# Altium footprint library Sitara.PcbLib: 12 footprints
Each footprint in its own frame and in the unit in brackets; x right, y up, seen from the top. Pads: shape width x height; smd on the part's side, far side on the other; paste and mask are expansions set on the pad; w line width, h text height; cw(c..) or ccw(c..) is an arc to the next point about the centre after c.
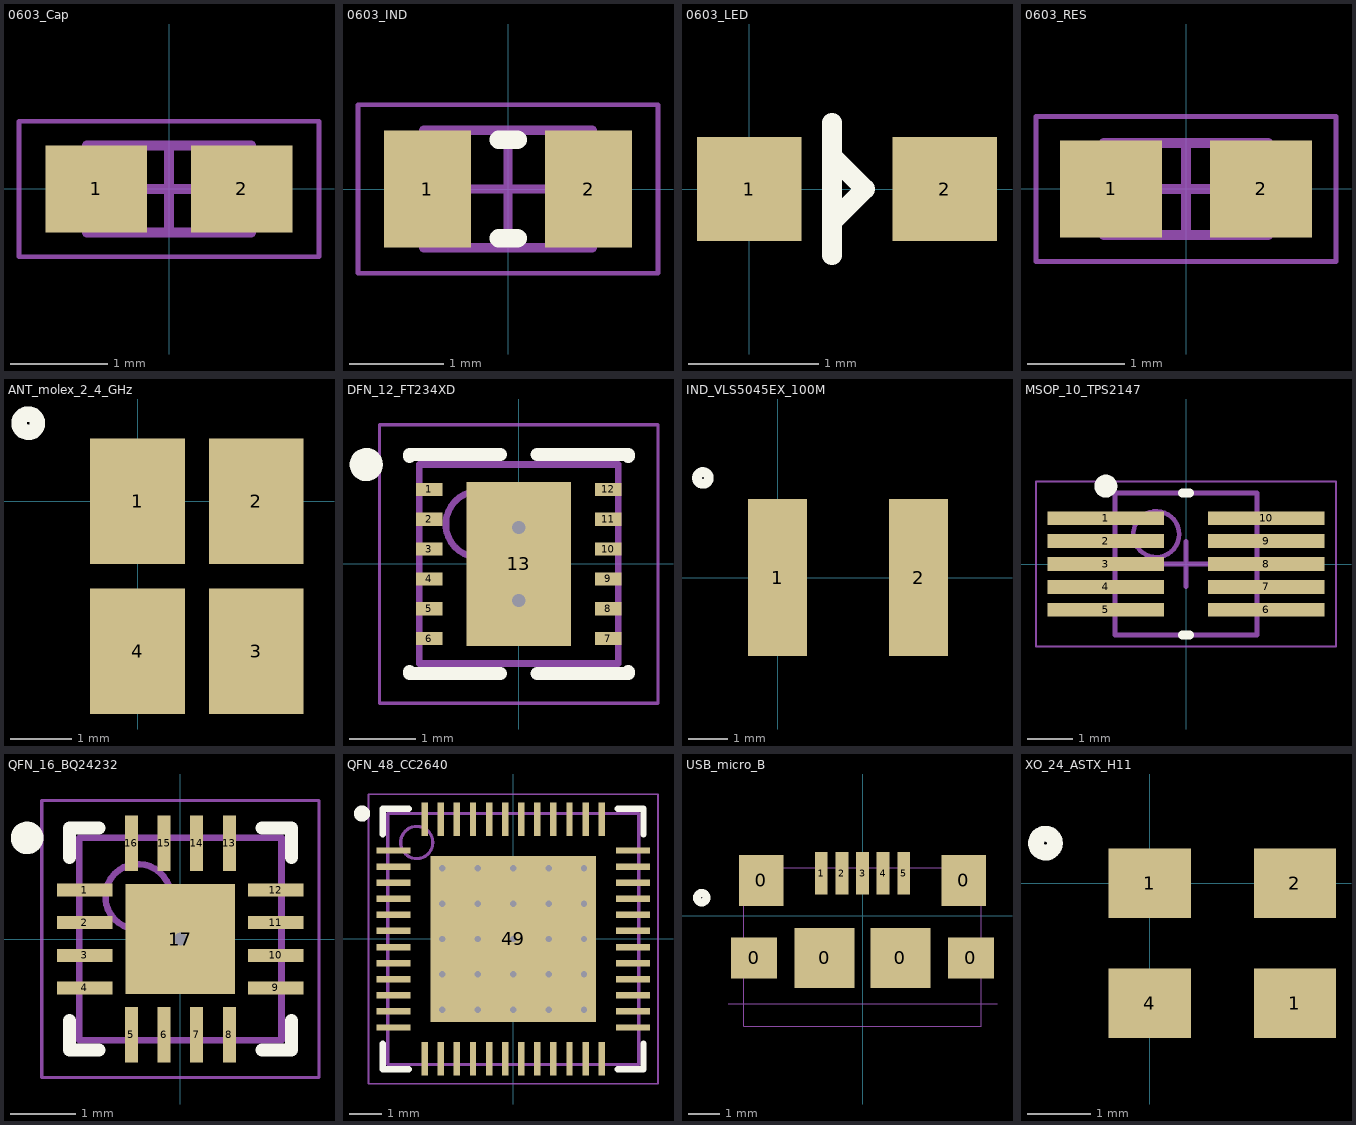
[diagram p0: the footprints below, top view; thin cyan lines are the x and y axes]

## 0603_Cap [mm] "Chip Capacitor, 2-Leads, Body 1.60x0.80mm, IPC Medium Density"
height 0.9
pads (2):
  rect 1.05x0.9 smd: 1(-0.75,0) 2(0.75,0)
Mechanical 6:
  lines w0.1: -0.85,-0.45 0.85,-0.45 0.85,0.45 -0.85,0.45 -0.85,-0.45
Mechanical 15:
  lines w0.05: -1.55,-0.7 1.55,-0.7 1.55,0.7 -1.55,0.7 -1.55,-0.7
  lines w0.1: -0.45,0 0.45,0 ; 0,-0.45 0,0.45
3D body: height 0.9, standoff 0, extent 0.45,-0.45 0.85,0.45
3D body: height 0.9, standoff 0, extent -0.85,-0.45 -0.45,0.45
3D body: height 0.9, standoff 0, extent -0.45,-0.45 0.45,0.45

## 0603_IND [mm] "Chip Inductor, 2-Leads, Body 1.60x1.05mm, IPC Medium Density"
height 1.25
pads (2):
  rect 0.93x1.25 smd: 1(-0.86,0) 2(0.86,0)
Top Overlay:
  lines w0.2: -0.1,-0.525 0.1,-0.525 ; -0.1,0.525 0.1,0.525
Mechanical 6:
  lines w0.1: -0.9,-0.625 -0.9,0.625 0.9,0.625 0.9,-0.625 -0.9,-0.625
Mechanical 15:
  lines w0.05: -1.6,-0.9 -1.6,0.9 1.6,0.9 1.6,-0.9 -1.6,-0.9
  lines w0.1: -0.5,0 0.5,0 ; 0,-0.5 0,0.5
3D body: height 1.25, standoff 0, extent -0.55,-0.625 0.55,0.625
3D body: height 1.25, standoff 0, extent -0.9,-0.625 -0.55,0.625
3D body: height 1.25, standoff 0, extent 0.55,-0.625 0.9,0.625

## 0603_LED [mm]
pads (2):
  rect 0.8x0.8 smd: 1(0,0) 2(1.5,0)
Top Overlay:
  lines w0.15: 0.635,-0.508 0.635,0.508 ; 0.635,-0.381 0.635,-0.254 0.889,0 0.635,0.254 0.635,0.381

## 0603_RES [mm] "Chip Resistor, 2-Leads, Body 1.55x0.80mm, IPC Medium Density"
height 0.55
pads (2):
  rect 1.05x1 smd: 1(-0.775,0) 2(0.775,0)
Mechanical 6:
  lines w0.1: -0.85,-0.475 0.85,-0.475 0.85,0.475 -0.85,0.475 -0.85,-0.475
Mechanical 15:
  lines w0.05: -1.55,-0.75 1.55,-0.75 1.55,0.75 -1.55,0.75 -1.55,-0.75
  lines w0.1: -0.475,0 0.475,0 ; 0,-0.475 0,0.475
3D body: height 0.55, standoff 0, extent 0.55,-0.475 0.85,0.475
3D body: height 0.55, standoff 0, extent -0.85,-0.475 -0.55,0.475
3D body: height 0.55, standoff 0, extent -0.55,-0.475 0.55,0.475

## ANT_molex_2_4_GHz [mm] "molex antenna footprint"
pads (4):
  rect 1.54x2.04 smd: 1(0,0) 2(1.93,0) 3(1.93,-2.44) 4(0,-2.44)
Top Overlay:
  circle w0.25: c-1.778,1.27 r0.15
3D body "479480001.stp": height 4.01, standoff 0.01, extent -0.554,-2.84 2.586,0.3

## DFN_12_FT234XD [mm] "QFN, 12-Leads, Body 3.00x3.00mm, Pitch 0.45mm, Thermal Pad 1.58x2.48mm, IPC Medium Density"
height 0.8
pads (13):
  rect 0.4x0.2 smd: 1(-1.35,1.125) 2(-1.35,0.675) 3(-1.35,0.225) 4(-1.35,-0.225) 5(-1.35,-0.675) 6(-1.35,-1.125) 7(1.35,-1.125) 8(1.35,-0.675) 9(1.35,-0.225) 10(1.35,0.225) 11(1.35,0.675) 12(1.35,1.125)
  rect 1.58x2.48 smd: 13(0,0)
via 0,0.55 diameter 0.5 hole 0.2
via 0,-0.55 diameter 0.5 hole 0.2
Top Overlay:
  circle w0.25: c-2.3,1.5 r0.125
  lines w0.2: -1.65,-1.625 -1.65,-1.65 -0.275,-1.65 ; -1.65,1.625 -1.65,1.65 -0.275,1.65 ; 0.275,-1.65 1.65,-1.65 1.65,-1.625 ; 0.275,1.65 1.65,1.65 1.65,1.625
Mechanical 6:
  circle w0.1: c-0.6,0.6 r0.5
  lines w0.1: -1.5,-1.5 -1.5,1.5 1.5,1.5 1.5,-1.5 -1.5,-1.5
Mechanical 15:
  lines w0.05: -2.1,-2.1 -2.1,2.1 2.1,2.1 2.1,-2.1 -2.1,-2.1
  lines w0.1: -0.5,0 0.5,0 ; 0,-0.5 0,0.5
3D body: height 0.8, standoff 0.02, extent -1.5,-1.5 1.5,1.5

## IND_VLS5045EX_100M [mm] "VLS5045EX_100M 10uF inductor"
pads (2):
  rect 1.5x4 smd: 1(0,0) 2(3.6,0)
Top Overlay:
  circle w0.25: c-1.905,2.54 r0.15

## MSOP_10_TPS2147 [mm] "MSOP, 10-Leads, Body 3.00x3.00mm, Pitch 0.50mm, IPC Medium Density"
height 1.1
pads (10):
  rect 2.55x0.3 smd: 1(-1.75,1) 2(-1.75,0.5) 3(-1.75,0) 4(-1.75,-0.5) 5(-1.75,-1) 6(1.75,-1) 7(1.75,-0.5) 8(1.75,0) 9(1.75,0.5) 10(1.75,1)
Top Overlay:
  circle w0.25: c-1.75,1.7 r0.125
  lines w0.2: -0.075,-1.55 0.075,-1.55 ; -0.075,1.55 0.075,1.55
Mechanical 6:
  circle w0.1: c-0.65,0.65 r0.5
  lines w0.1: -1.55,-1.55 1.55,-1.55 1.55,1.55 -1.55,1.55 -1.55,-1.55
Mechanical 15:
  lines w0.05: -3.275,-1.8 3.275,-1.8 3.275,1.8 -3.275,1.8 -3.275,-1.8
  lines w0.1: -0.5,0 0.5,0 ; 0,-0.5 0,0.5
3D body: height 1.1, standoff 0.25, extent -1.55,-1.55 1.55,1.55

## QFN_16_BQ24232 [mm] "QFN, 16-Leads, Body 3.00x3.00mm, Pitch 0.50mm, Thermal Pad 1.68x1.68mm, IPC Medium Density"
height 1
pads (17):
  rect 0.85x0.2 smd: 1(-1.465,0.75) 2(-1.465,0.25) 3(-1.465,-0.25) 4(-1.465,-0.75) 9(1.465,-0.75) 10(1.465,-0.25) 11(1.465,0.25) 12(1.465,0.75)
  rect 0.2x0.85 smd: 5(-0.75,-1.465) 6(-0.25,-1.465) 7(0.25,-1.465) 8(0.75,-1.465) 13(0.75,1.465) 14(0.25,1.465) 15(-0.25,1.465) 16(-0.75,1.465)
  rect 1.68x1.68 smd: 17(0,0)
via 0,0 diameter 0.5 hole 0.2
Top Overlay:
  circle w0.25: c-2.35,1.55 r0.125
  lines w0.2: -1.7,-1.25 -1.7,-1.7 -1.25,-1.7 ; -1.7,1.25 -1.7,1.7 -1.25,1.7 ; 1.25,-1.7 1.7,-1.7 1.7,-1.25 ; 1.25,1.7 1.7,1.7 1.7,1.25
Mechanical 6:
  circle w0.1: c-0.65,0.65 r0.5
  lines w0.1: -1.55,-1.55 -1.55,1.55 1.55,1.55 1.55,-1.55 -1.55,-1.55
Mechanical 15:
  lines w0.05: -2.125,-2.125 -2.125,2.125 2.125,2.125 2.125,-2.125 -2.125,-2.125
  lines w0.1: -0.5,0 0.5,0 ; 0,-0.5 0,0.5
3D body: height 1, standoff 0, extent -1.55,-1.55 1.55,1.55

## QFN_48_CC2640 [mm] "QFN, 48-Leads, Body 7.80x7.80mm, Pitch 0.50mm, Thermal Pad 5.15x5.15mm, IPC Medium Density"
height 1
pads (49):
  rect 1.05x0.2 smd: 1(-3.725,2.75) 2(-3.725,2.25) 3(-3.725,1.75) 4(-3.725,1.25) 5(-3.725,0.75) 6(-3.725,0.25) 7(-3.725,-0.25) 8(-3.725,-0.75) 9(-3.725,-1.25) 10(-3.725,-1.75) 11(-3.725,-2.25) 12(-3.725,-2.75) 25(3.725,-2.75) 26(3.725,-2.25) 27(3.725,-1.75) 28(3.725,-1.25) 29(3.725,-0.75) 30(3.725,-0.25) 31(3.725,0.25) 32(3.725,0.75) 33(3.725,1.25) 34(3.725,1.75) 35(3.725,2.25) 36(3.725,2.75)
  rect 0.2x1.05 smd: 13(-2.75,-3.725) 14(-2.25,-3.725) 15(-1.75,-3.725) 16(-1.25,-3.725) 17(-0.75,-3.725) 18(-0.25,-3.725) 19(0.25,-3.725) 20(0.75,-3.725) 21(1.25,-3.725) 22(1.75,-3.725) 23(2.25,-3.725) 24(2.75,-3.725) 37(2.75,3.725) 38(2.25,3.725) 39(1.75,3.725) 40(1.25,3.725) 41(0.75,3.725) 42(0.25,3.725) 43(-0.25,3.725) 44(-0.75,3.725) 45(-1.25,3.725) 46(-1.75,3.725) 47(-2.25,3.725) 48(-2.75,3.725)
  rect 5.15x5.15 smd: 49(0,0)
via -2.2,2.2 diameter 0.5 hole 0.2
via -1.1,2.2 diameter 0.5 hole 0.2
via 0,2.2 diameter 0.5 hole 0.2
via 1.1,2.2 diameter 0.5 hole 0.2
via 2.2,2.2 diameter 0.5 hole 0.2
via -2.2,1.1 diameter 0.5 hole 0.2
via -1.1,1.1 diameter 0.5 hole 0.2
via 0,1.1 diameter 0.5 hole 0.2
via 1.1,1.1 diameter 0.5 hole 0.2
via 2.2,1.1 diameter 0.5 hole 0.2
via -2.2,0 diameter 0.5 hole 0.2
via -1.1,0 diameter 0.5 hole 0.2
via 0,0 diameter 0.5 hole 0.2
via 1.1,0 diameter 0.5 hole 0.2
via 2.2,0 diameter 0.5 hole 0.2
via -2.2,-1.1 diameter 0.5 hole 0.2
via -1.1,-1.1 diameter 0.5 hole 0.2
via 0,-1.1 diameter 0.5 hole 0.2
via 1.1,-1.1 diameter 0.5 hole 0.2
via 2.2,-1.1 diameter 0.5 hole 0.2
via -2.2,-2.2 diameter 0.5 hole 0.2
via -1.1,-2.2 diameter 0.5 hole 0.2
via 0,-2.2 diameter 0.5 hole 0.2
via 1.1,-2.2 diameter 0.5 hole 0.2
via 2.2,-2.2 diameter 0.5 hole 0.2
Top Overlay:
  circle w0.25: c-4.7,3.9 r0.125
  lines w0.2: -4.05,-3.25 -4.05,-4.05 -3.25,-4.05 ; -4.05,3.25 -4.05,4.05 -3.25,4.05 ; 3.25,-4.05 4.05,-4.05 4.05,-3.25 ; 3.25,4.05 4.05,4.05 4.05,3.25
Mechanical 6:
  circle w0.1: c-3,3 r0.5
  lines w0.1: -3.9,-3.9 -3.9,3.9 3.9,3.9 3.9,-3.9 -3.9,-3.9
Mechanical 15:
  lines w0.05: -4.5,-4.5 -4.5,4.5 4.5,4.5 4.5,-4.5 -4.5,-4.5
  lines w0.1: -0.5,0 0.5,0 ; 0,-0.5 0,0.5
3D body: height 1, standoff 0, extent -3.9,-3.9 3.9,3.9

## USB_micro_B [mm] "USB_Micro_B_A97800CT-ND"
pads (11):
  rect 1.45x1.3 smd: 0(-3.425,-1.338) 0(3.425,-1.338)
  rect 1.4x1.6 smd: 0(-3.2,1.112) 0(3.2,1.112)
  rect 1.9x1.9 smd: 0(-1.2,-1.338) 0(1.2,-1.338)
  rect 0.4x1.35 smd: 1(-1.3,1.338) 2(-0.65,1.338) 3(0,1.338) 4(0.65,1.338) 5(1.3,1.338)
Top Overlay:
  circle w0.25: c-5.08,0.567 r0.15
Mechanical 1:
  lines w0.025: -4.25,-2.788 4.25,-2.788
Mechanical 13:
  lines w0.025: -3.75,-3.488 -3.75,1.512 3.75,1.512 3.75,-3.488 -3.75,-3.488
3D body "micro_usb_47346-0001.STEP": height 2.72, standoff -0.22, extent -3.99,-3.928 3.99,1.502

## XO_24_ASTX_H11 [mm] "ASTX_H11_24_MHz"
pads (4):
  rect 1.3x1.1 smd: 1(0,0) 1(2.3,-1.9) 2(2.3,0) 4(0,-1.9)
Top Overlay:
  circle w0.25: c-1.651,0.635 r0.15